# Altium footprint library INDUCTORS.PCBLIB: 54 footprints (part 4 of 4)
Each footprint in its own frame and in the unit in brackets; x right, y up, seen from the top. Pads: shape width x height; smd on the part's side, far side on the other; paste and mask are expansions set on the pad; w line width, h text height; cw(c..) or ccw(c..) is an arc to the next point about the centre after c.
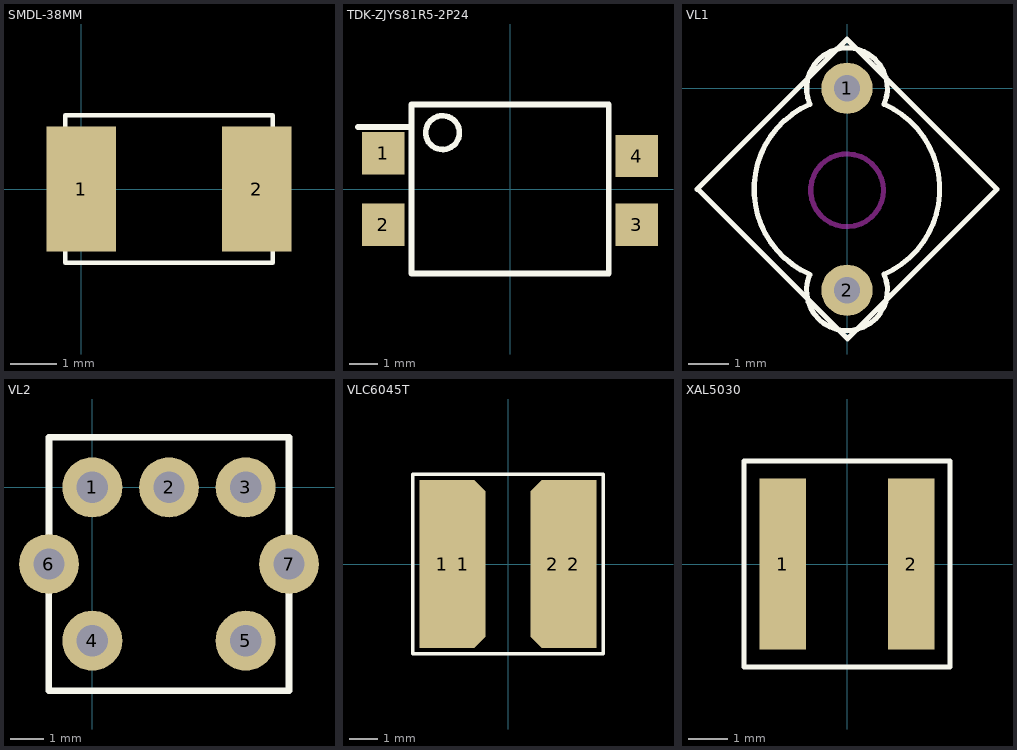
[diagram p3: the footprints below, top view; thin cyan lines are the x and y axes]

## SMDL-38MM [mm]
pads (2):
  rect 1.5x2.7 smd: 1(0,0) 2(3.8,0)
TopOverlay:
  lines w0.1: -0.35,-1.6 4.15,-1.6 4.15,1.6 -0.35,1.6 -0.35,-1.6

## TDK-ZJYS81R5-2P24 [mm]
pads (4):
  rect 1.5x1.5 smd: 1(-4.5,1.27) 2(-4.5,-1.27) 3(4.5,-1.27) 4(4.5,1.17)
TopOverlay:
  circle w0.2: c-2.4,2 r0.6
  lines w0.2: -5.4,2.2 -3.5,2.2 ; -3.5,-3 3.5,-3 3.5,3 -3.5,3 -3.5,-3

## VL1 [mm]
pads (2):
  round 1.27 hole 0.65: 1(0,0) 2(0,-5)
TopOverlay:
  lines w0.127: -3.712,-2.5 0,1.212 3.712,-2.5 0.012,-6.2 -3.688,-2.5 ; -0.923,-4.615 ccw(c0,-5) 0.918,-4.603 ccw(c0,-2.5) 0.918,-0.397 ccw(c0,0) -0.914,-0.406 ; -0.92,-4.608 cw(c0,-2.5) -0.92,-0.392
KeepOutLayer:
  circle w0.127: c0,-2.525 r0.9

## VL2 [mm]
pads (7):
  round 1.8 hole 0.94: 1(0,0) 2(2.3,0) 3(4.6,0) 4(0,-4.6) 5(4.6,-4.6) 6(-1.3,-2.3) 7(5.9,-2.3)
TopOverlay:
  lines w0.203: -1.307,-2.367 -1.307,-6.099 -0.012,-6.099 ; -1.3,-2.3 -1.3,1.5 2.3,1.5 5.9,1.5 5.9,-2.3 5.9,-6.1 0,-6.1

## VLC6045T [mm]
pads (4):
  rect 1.6x6 smd: 1(-2.35,0) 2(2.35,0)
  oct 1.6x6 smd: 1(-1.6,0) 2(1.6,0)
TopOverlay:
  lines w0.127: -3.4,-3.2 -3.4,3.2 3.4,3.2 3.4,-3.2 -3.4,-3.2

## XAL5030 [mm]
pads (2):
  rect 1.2x4.4 smd: 1(-1.655,0) 2(1.655,0)
TopOverlay:
  lines w0.127: -2.65,-2.65 -2.65,2.65 2.65,2.65 2.65,-2.65 -2.65,-2.65